# Altium footprint library NUP4301MR6T1G.PcbLib: 3 footprints
Each footprint in its own frame and in the unit in brackets; x right, y up, seen from the top. Pads: shape width x height; smd on the part's side, far side on the other; paste and mask are expansions set on the pad; w line width, h text height; cw(c..) or ccw(c..) is an arc to the next point about the centre after c.
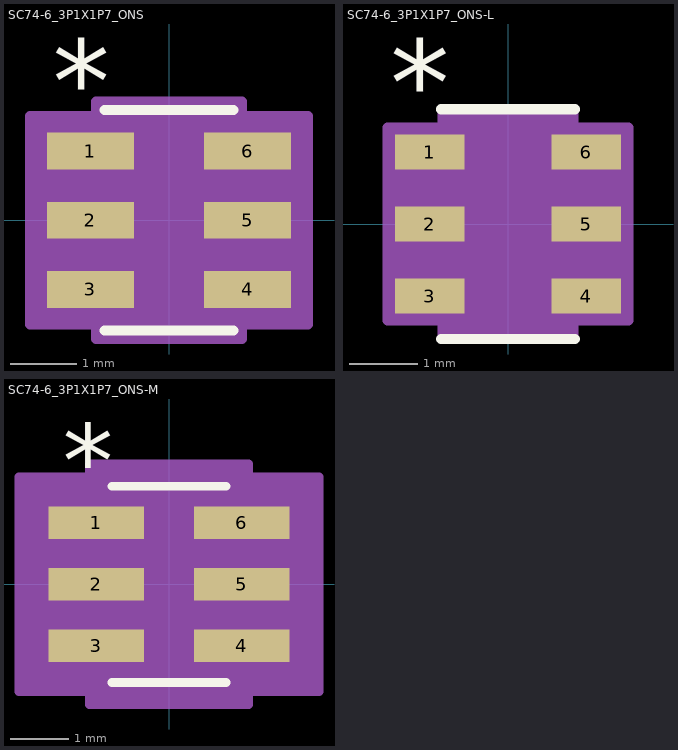
[diagram p0: the footprints below, top view; thin cyan lines are the x and y axes]

## SC74-6_3P1X1P7_ONS [mil]
pads (6):
  rect 52x22 smd paste+0 mask+0: 1(-47,41.34) 2(-47,0) 3(-47,-41.34) 4(47,-41.34) 5(47,0) 6(47,41.34)
Top Overlay:
  lines w6: -38.5,-66 38.5,-66 ; -38.5,66 38.5,66
  text "*" at -69.5,58.34 h50
Mechanical 13:
  lines w0: -12,61 ccw(c0,61) 12,61
  lines w1: -59,-51.34 -59,-31.34 -33.5,-31.34 -33.5,-51.34 -59,-51.34 ; -59,-10 -59,10 -33.5,10 -33.5,-10 -59,-10 ; -59,31.34 -59,51.34 -33.5,51.34 -33.5,31.34 -59,31.34 ; -33.5,-61 33.5,-61 33.5,61 -33.5,61 -33.5,-61 ; 33.5,-51.34 33.5,-31.34 59,-31.34 59,-51.34 33.5,-51.34 ; 33.5,-10 33.5,10 59,10 59,-10 33.5,-10 ; 33.5,31.34 33.5,51.34 59,51.34 59,31.34 33.5,31.34
  text "*" at -31,8 h50
Mechanical 15:
  region: -43.5,-62.34 -83,-62.34 -83,62.34 -43.5,62.34 -43.5,71 43.5,71 43.5,62.34 83,62.34 83,-62.34 43.5,-62.34 43.5,-71 -43.5,-71
  lines w6: -83,-62.34 -83,62.34 -43.5,62.34 -43.5,71 43.5,71 43.5,62.34 83,62.34 83,-62.34 43.5,-62.34 43.5,-71 -43.5,-71 -43.5,-62.34 -83,-62.34
3D body "SC74-6_3P1X1P7_ONS.step": height 43.11, standoff 0, extent -59.02,-60.98 59.02,60.98

## SC74-6_3P1X1P7_ONS-L [mil]
pads (6):
  rect 40x20 smd paste+0 mask+0: 1(-45,41.34) 2(-45,0) 3(-45,-41.34) 4(45,-41.34) 5(45,0) 6(45,41.34)
Top Overlay:
  lines w6: -38.5,-66 38.5,-66 ; -38.5,66 38.5,66
  text "*" at -67.5,56.34 h50
Mechanical 13:
  lines w0: -12,61 ccw(c0,61) 12,61
  lines w1: -59,-51.34 -59,-31.34 -33.5,-31.34 -33.5,-51.34 -59,-51.34 ; -59,-10 -59,10 -33.5,10 -33.5,-10 -59,-10 ; -59,31.34 -59,51.34 -33.5,51.34 -33.5,31.34 -59,31.34 ; -33.5,-61 33.5,-61 33.5,61 -33.5,61 -33.5,-61 ; 33.5,-51.34 33.5,-31.34 59,-31.34 59,-51.34 33.5,-51.34 ; 33.5,-10 33.5,10 59,10 59,-10 33.5,-10 ; 33.5,31.34 33.5,51.34 59,51.34 59,31.34 33.5,31.34
  text "*" at -31,8 h50
Mechanical 15:
  region: -37.5,-55.34 -69,-55.34 -69,55.34 -37.5,55.34 -37.5,65 37.5,65 37.5,55.34 69,55.34 69,-55.34 37.5,-55.34 37.5,-65 -37.5,-65
  lines w6: -69,-55.34 -69,55.34 -37.5,55.34 -37.5,65 37.5,65 37.5,55.34 69,55.34 69,-55.34 37.5,-55.34 37.5,-65 -37.5,-65 -37.5,-55.34 -69,-55.34
3D body "SC74-6_3P1X1P7_ONS.step": height 43.11, standoff 0, extent -59.02,-60.98 59.02,60.98

## SC74-6_3P1X1P7_ONS-M [mil]
pads (6):
  rect 64x22 smd paste+0 mask+0: 1(-49,41.34) 2(-49,0) 3(-49,-41.34) 4(49,-41.34) 5(49,0) 6(49,41.34)
Top Overlay:
  lines w6: -38.5,-66 38.5,-66 ; -38.5,66 38.5,66
  text "*" at -71.5,58.34 h50
Mechanical 13:
  lines w0: -12,61 ccw(c0,61) 12,61
  lines w1: -59,-51.34 -59,-31.34 -33.5,-31.34 -33.5,-51.34 -59,-51.34 ; -59,-10 -59,10 -33.5,10 -33.5,-10 -59,-10 ; -59,31.34 -59,51.34 -33.5,51.34 -33.5,31.34 -59,31.34 ; -33.5,-61 33.5,-61 33.5,61 -33.5,61 -33.5,-61 ; 33.5,-51.34 33.5,-31.34 59,-31.34 59,-51.34 33.5,-51.34 ; 33.5,-10 33.5,10 59,10 59,-10 33.5,-10 ; 33.5,31.34 33.5,51.34 59,51.34 59,31.34 33.5,31.34
  text "*" at -31,8 h50
Mechanical 15:
  region: -53.5,-72.34 -101,-72.34 -101,72.34 -53.5,72.34 -53.5,81 53.5,81 53.5,72.34 101,72.34 101,-72.34 53.5,-72.34 53.5,-81 -53.5,-81
  lines w6: -101,-72.34 -101,72.34 -53.5,72.34 -53.5,81 53.5,81 53.5,72.34 101,72.34 101,-72.34 53.5,-72.34 53.5,-81 -53.5,-81 -53.5,-72.34 -101,-72.34
3D body "SC74-6_3P1X1P7_ONS.step": height 43.11, standoff 0, extent -59.02,-60.98 59.02,60.98